# Altium footprint library adruino nano.PcbLib: 1 footprints
Each footprint in its own frame and in the unit in brackets; x right, y up, seen from the top. Pads: shape width x height; smd on the part's side, far side on the other; paste and mask are expansions set on the pad; w line width, h text height; cw(c..) or ccw(c..) is an arc to the next point about the centre after c.
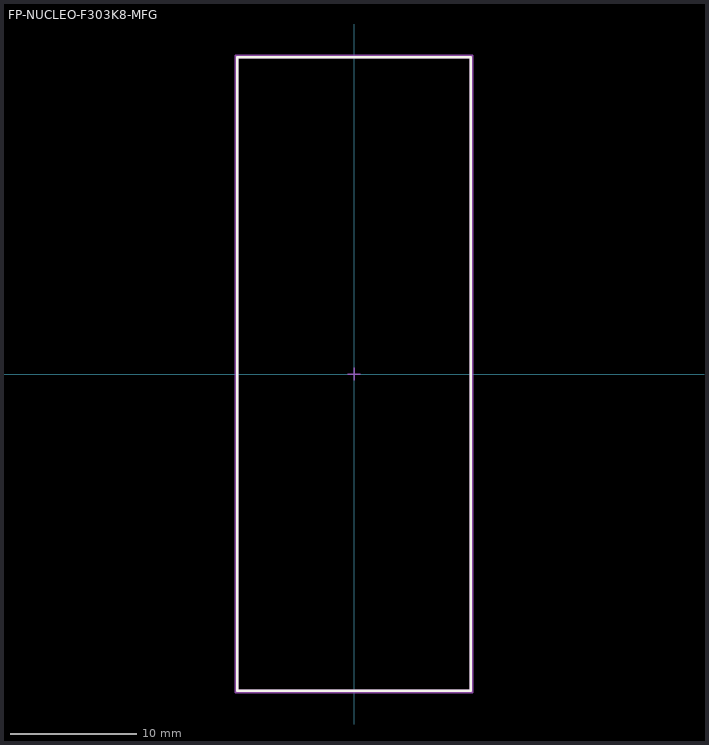
[diagram p0: the footprint, top view; thin cyan lines are the x and y axes]

## FP-NUCLEO-F303K8-MFG [mm]
Top Overlay:
  lines w0.2: -9.27,-25.145 9.27,-25.145 9.27,25.145 -9.27,25.145 -9.27,-25.145
Mechanical 5:
  lines w0.2: -9.37,-25.245 9.37,-25.245 9.37,25.245 -9.37,25.245 -9.37,-25.245
  text ".Designator" at 0,-0.001 h1
Mechanical 13:
  lines w0.2: -9.27,-25.145 9.27,-25.145 9.27,25.145 -9.27,25.145 -9.27,-25.145
Mechanical 15:
  lines w0.2: -9.37,-25.245 9.37,-25.245 9.37,25.245 -9.37,25.245 -9.37,-25.245
Mechanical 16:
  lines w0.1: -0.5,0 0.5,0 ; 0,-0.5 0,0.5
3D body "IC_STMicroelectronics_NUCLEO-F303K8_eec.STEP": height 0.25, standoff 0, extent -9.37,-25.245 9.37,25.245